# Altium footprint library FootPrintLib_6.PcbLib: 588 footprints (part 15 of 37)
Each footprint in its own frame and in the unit in brackets; x right, y up, seen from the top. Pads: shape width x height; smd on the part's side, far side on the other; paste and mask are expansions set on the pad; w line width, h text height; cw(c..) or ccw(c..) is an arc to the next point about the centre after c.
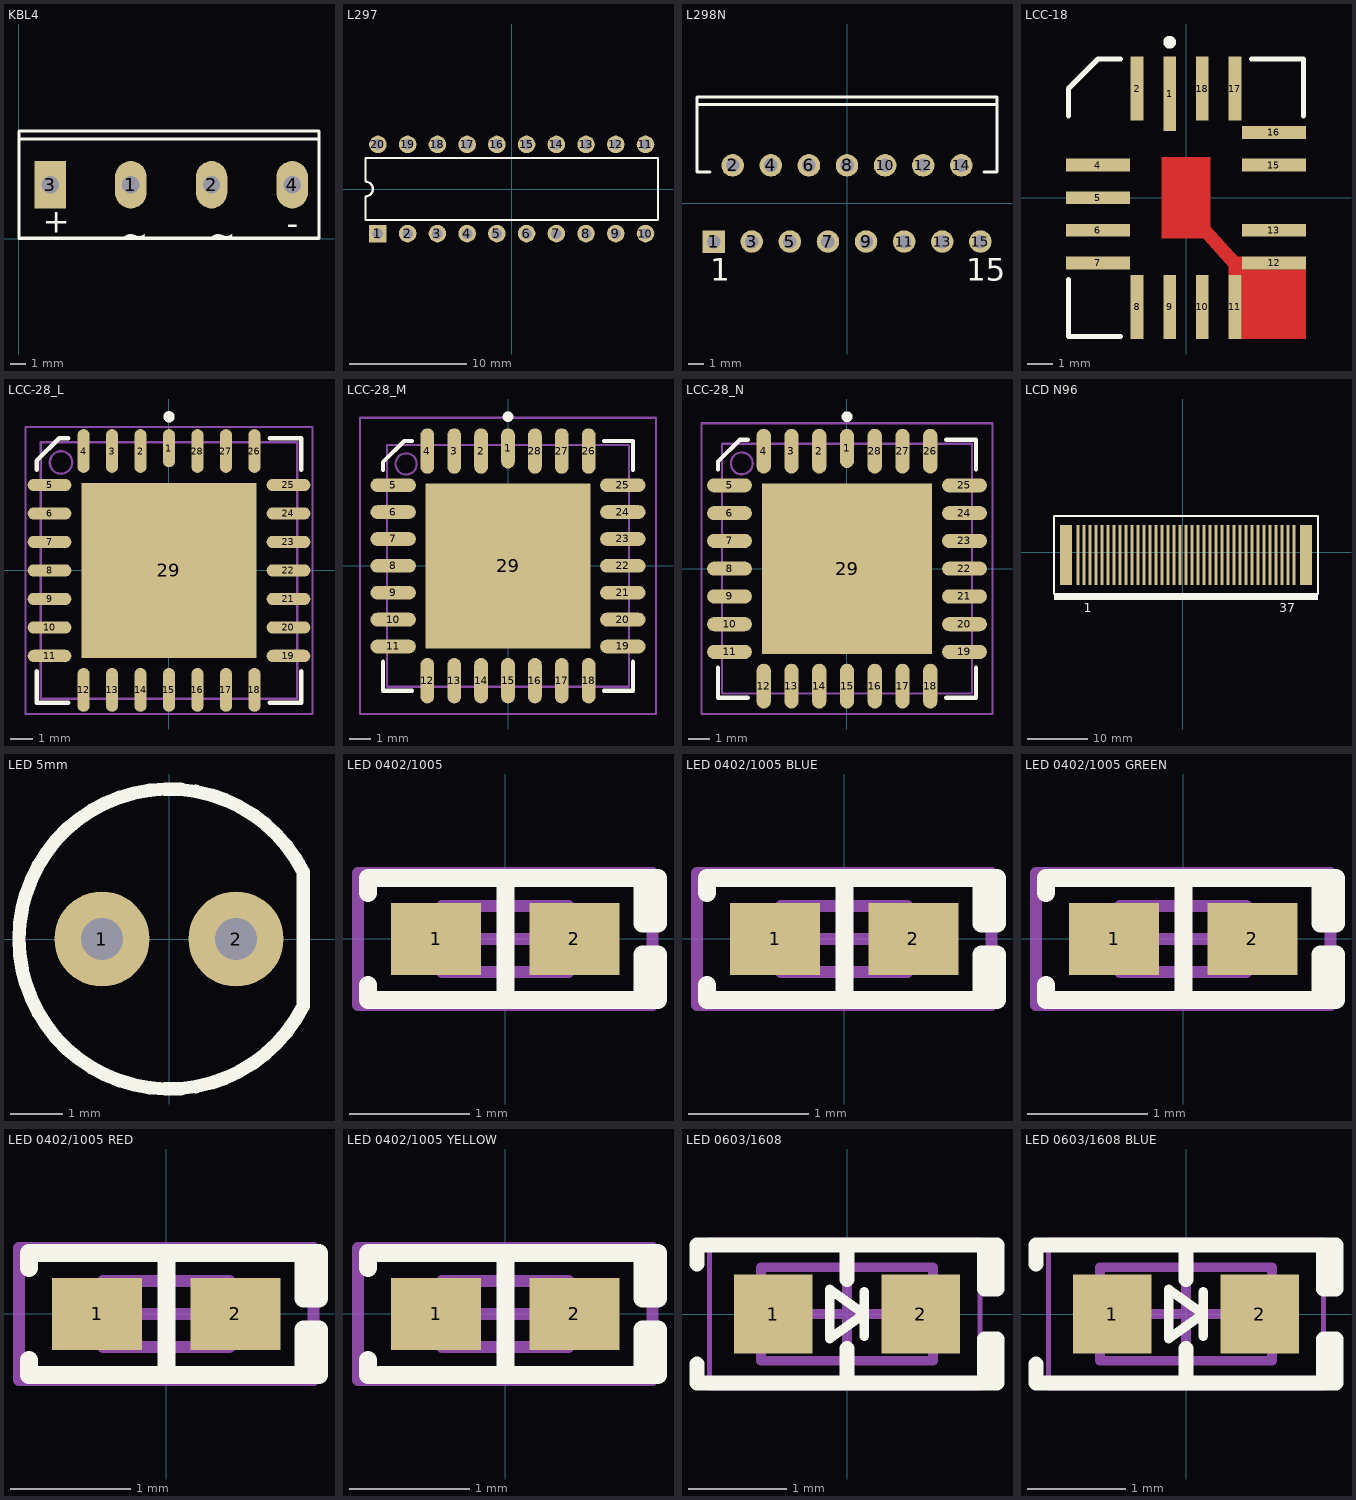
[diagram p14: the footprints below, top view; thin cyan lines are the x and y axes]

## KBL4 [mm] "6mm; 19mm"
height 15
pads (4):
  oval 2x3 hole 1.1: 1(7.112,3.429) 2(12.229,3.429) 4(17.347,3.429)
  rect 2x3 hole 1.1: 3(1.995,3.429)
Top Overlay:
  lines w0.2: 0.013,6.329 19.05,6.329 ; 19,0.029 0.013,0.029 0.013,6.829 19.05,6.829 19.05,0.029
  text "-" at 17.018,0.254 h1.5
  text "+" at 1.524,0.381 h1.5
  text "~" at 12.065,-0.508 h1.5
  text "~" at 6.493,-0.511 h1.5

## L297 [mm]
pads (20):
  rect 1.5x1.5 hole 0.9: 1(-11.43,-3.81)
  round 1.5 hole 0.9: 2(-8.89,-3.81) 3(-6.35,-3.81) 4(-3.81,-3.81) 5(-1.27,-3.81) 6(1.27,-3.81) 7(3.81,-3.81) 8(6.35,-3.81) 9(8.89,-3.81) 10(11.43,-3.81) 11(11.43,3.81) 12(8.89,3.81) 13(6.35,3.81) 14(3.81,3.81) 15(1.27,3.81) 16(-1.27,3.81) 17(-3.81,3.81) 18(-6.35,3.81) 19(-8.89,3.81) 20(-11.43,3.81)
Top Overlay:
  lines w0.2: -12.5,-2.65 -12.5,-0.635 ccw(c-12.5,0) -12.5,0.635 -12.5,2.65 12.5,2.65 12.5,-2.65 -12.5,-2.65

## L298N [mm]
pads (15):
  rect 1.5x1.5 hole 0.9: 1(-8.89,-2.54)
  round 1.5 hole 0.9: 2(-7.62,2.54) 3(-6.35,-2.54) 4(-5.08,2.54) 5(-3.81,-2.54) 6(-2.54,2.54) 7(-1.27,-2.54) 8(0,2.54) 9(1.27,-2.54) 10(2.54,2.54) 11(3.81,-2.54) 12(5.08,2.54) 13(6.35,-2.54) 14(7.62,2.54) 15(8.89,-2.54)
Top Overlay:
  lines w0.2: -10,6.59 10,6.59 ; -9.144,2.09 -10,2.09 -10,7.09 10,7.09 10,2.09 9.144,2.09
  text "1" at -9.12,-5.165 h1.5
  text "15" at 7.94,-5.165 h1.5

## LCC-18 [mm] "Leadless Chip Carrier; 18 Terminals; Body 7.3 x 9 mm"
height 2.93
pads (16):
  rect 0.5x2.9 smd: 1(-0.635,4.05)
  rect 0.5x2.5 smd: 2(-1.905,4.25) 8(-1.905,-4.25) 9(-0.635,-4.25) 10(0.635,-4.25) 11(1.905,-4.25) 17(1.905,4.25) 18(0.635,4.25)
  rect 2.5x0.5 smd: 4(-3.429,1.27) 5(-3.429,0) 6(-3.429,-1.27) 7(-3.429,-2.54) 12(3.429,-2.54) 13(3.421,-1.27) 15(3.421,1.27) 16(3.421,2.54)
Top Layer:
  region: 0.93,-1.092 0.532,-1.45 1.683,-2.728 2.081,-2.37
  rectangle: 1.655,-3 2.178,-2.29
  region: 0.954,-1.597 0.954,1.578 -0.951,1.578 -0.951,-1.597
  rectangle: 2.155,-5.5 4.679,-2.79
Top Overlay:
  circle w0.25: c-0.634,6.052 r0.125
  lines w0.2: -4.575,-3.19 -4.575,-5.402 -2.555,-5.402 ; -4.575,3.19 -4.575,4.25 -3.429,5.398 -2.555,5.398 ; 2.555,5.398 4.575,5.398 4.574,3.19

## LCC-28_L [mm] "Leadless Chip Carrier, 28-Leads, Body 11.4x11.4mm, Pitch 1.27mm, Exposed Pad, IPC High Density"
height 2.42
pads (29):
  oval 0.55x1.7 smd: 1(0,5.45)
  oval 0.55x1.95 smd: 2(-1.27,5.325) 3(-2.54,5.325) 4(-3.81,5.325) 12(-3.81,-5.325) 13(-2.54,-5.325) 14(-1.27,-5.325) 15(0,-5.325) 16(1.27,-5.325) 17(2.54,-5.325) 18(3.81,-5.325) 26(3.81,5.325) 27(2.54,5.325) 28(1.27,5.325)
  oval 1.95x0.55 smd: 5(-5.325,3.81) 6(-5.325,2.54) 7(-5.325,1.27) 8(-5.325,0) 9(-5.325,-1.27) 10(-5.325,-2.54) 11(-5.325,-3.81) 19(5.325,-3.81) 20(5.325,-2.54) 21(5.325,-1.27) 22(5.325,0) 23(5.325,1.27) 24(5.325,2.54) 25(5.325,3.81)
  rect 7.8x7.8 smd: 29(0,0)
Top Overlay:
  circle w0.25: c0,6.85 r0.125
  lines w0.2: -5.9,-4.485 -5.9,-5.9 -4.485,-5.9 ; -5.9,4.485 -5.9,4.9 -4.9,5.9 -4.485,5.9 ; 4.485,-5.9 5.9,-5.9 5.9,-4.485 ; 4.485,5.9 5.9,5.9 5.9,4.485
Mechanical 13:
  circle w0.1: c-4.815,4.815 r0.5
  lines w0.1: -5.715,-5.715 5.715,-5.715 5.715,5.715 -5.715,5.715 -5.715,-5.715
Mechanical 15:
  lines w0.1: -0.5,0 0.5,0 ; 0,-0.5 0,0.5 ; -6.4,-6.4 6.4,-6.4 6.4,6.4 -6.4,6.4 -6.4,-6.4
3D body: height 2.42, standoff 0, extent -5.715,-5.715 5.715,5.715

## LCC-28_M [mm] "Leadless Chip Carrier, 28-Leads, Body 11.4x11.4mm, Pitch 1.27mm, Exposed Pad, IPC Low Density"
height 2.42
pads (29):
  oval 0.65x1.9 smd: 1(0,5.55)
  oval 0.65x2.15 smd: 2(-1.27,5.425) 3(-2.54,5.425) 4(-3.81,5.425) 12(-3.81,-5.425) 13(-2.54,-5.425) 14(-1.27,-5.425) 15(0,-5.425) 16(1.27,-5.425) 17(2.54,-5.425) 18(3.81,-5.425) 26(3.81,5.425) 27(2.54,5.425) 28(1.27,5.425)
  oval 2.15x0.65 smd: 5(-5.425,3.81) 6(-5.425,2.54) 7(-5.425,1.27) 8(-5.425,0) 9(-5.425,-1.27) 10(-5.425,-2.54) 11(-5.425,-3.81) 19(5.425,-3.81) 20(5.425,-2.54) 21(5.425,-1.27) 22(5.425,0) 23(5.425,1.27) 24(5.425,2.54) 25(5.425,3.81)
  rect 7.8x7.8 smd: 29(0,0)
Top Overlay:
  circle w0.25: c0,7.05 r0.125
  lines w0.2: -5.9,-4.535 -5.9,-5.9 -4.535,-5.9 ; -5.9,4.535 -5.9,4.9 -4.9,5.9 -4.535,5.9 ; 4.535,-5.9 5.9,-5.9 5.9,-4.535 ; 4.535,5.9 5.9,5.9 5.9,4.535
Mechanical 13:
  circle w0.1: c-4.815,4.815 r0.5
  lines w0.1: -5.715,-5.715 -5.715,5.715 5.715,5.715 5.715,-5.715 -5.715,-5.715
Mechanical 15:
  lines w0.1: -0.5,0 0.5,0 ; 0,-0.5 0,0.5 ; -7,-7 -7,7 7,7 7,-7 -7,-7
3D body: height 2.42, standoff 0, extent -5.715,-5.715 5.715,5.715

## LCC-28_N [mm] "Leadless Chip Carrier, 28-Leads, Body 11.4x11.4mm, Pitch 1.27mm, Exposed Pad, IPC Medium Density"
height 2.42
pads (29):
  oval 0.65x1.8 smd: 1(0,5.5)
  oval 0.65x2.05 smd: 2(-1.27,5.375) 3(-2.54,5.375) 4(-3.81,5.375) 12(-3.81,-5.375) 13(-2.54,-5.375) 14(-1.27,-5.375) 15(0,-5.375) 16(1.27,-5.375) 17(2.54,-5.375) 18(3.81,-5.375) 26(3.81,5.375) 27(2.54,5.375) 28(1.27,5.375)
  oval 2.05x0.65 smd: 5(-5.375,3.81) 6(-5.375,2.54) 7(-5.375,1.27) 8(-5.375,0) 9(-5.375,-1.27) 10(-5.375,-2.54) 11(-5.375,-3.81) 19(5.375,-3.81) 20(5.375,-2.54) 21(5.375,-1.27) 22(5.375,0) 23(5.375,1.27) 24(5.375,2.54) 25(5.375,3.81)
  rect 7.8x7.8 smd: 29(0,0)
Top Overlay:
  circle w0.25: c0,6.95 r0.125
  lines w0.2: -5.9,-4.535 -5.9,-5.9 -4.535,-5.9 ; -5.9,4.535 -5.9,4.9 -4.9,5.9 -4.535,5.9 ; 4.535,-5.9 5.9,-5.9 5.9,-4.535 ; 4.535,5.9 5.9,5.9 5.9,4.535
Mechanical 13:
  circle w0.1: c-4.815,4.815 r0.5
  lines w0.1: -5.715,-5.715 -5.715,5.715 5.715,5.715 5.715,-5.715 -5.715,-5.715
Mechanical 15:
  lines w0.1: -0.5,0 0.5,0 ; 0,-0.5 0,0.5 ; -6.65,-6.65 -6.65,6.65 6.65,6.65 6.65,-6.65 -6.65,-6.65
3D body: height 2.42, standoff 0, extent -5.715,-5.715 5.715,5.715

## LCD N96 [mm]
pads (39):
  rect 0.5x10 smd: 1(-17.5,-0.5) 2(-16.5,-0.5) 3(-15.5,-0.5) 4(-14.5,-0.5) 5(-13.5,-0.5) 6(-12.5,-0.5) 7(-11.5,-0.5) 8(-10.5,-0.5) 9(-9.5,-0.5) 10(-8.5,-0.5) 11(-7.5,-0.5) 12(-6.5,-0.5) 13(-5.5,-0.5) 14(-4.5,-0.5) 15(-3.5,-0.5) 16(-2.5,-0.5) 17(-1.5,-0.5) 18(-0.5,-0.5) 19(0.5,-0.5) 20(1.5,-0.5) 21(2.5,-0.5) 22(3.5,-0.5) 23(4.5,-0.5) 24(5.5,-0.5) 25(6.5,-0.5) 26(7.5,-0.5) 27(8.5,-0.5) 28(9.5,-0.5) 29(10.5,-0.5) 30(11.5,-0.5) 31(12.5,-0.5) 32(13.5,-0.5) 33(14.5,-0.5) 34(15.5,-0.5) 35(16.5,-0.5) 36(17.5,-0.5) 37(18.5,-0.5)
  rect 2x10 smd: ""(-19.5,-0.5) ""(20.5,-0.5)
Top Overlay:
  rectangle: -21.5,-8 22.5,-7
  lines w0.254: -21.5,-7 -21.5,6 22.5,6 22.5,-7 -21.5,-7
  text "1" at -16.5,-10 h1.52
  text "37" at 16,-10 h1.52

## LED 5mm [mm]
pads (2):
  round 1.8 hole 0.8: 1(-1.27,0) 2(1.27,0)
Top Overlay:
  lines w0.254: 2.54,-1.27 cw(c0,0) 2.54,1.27 2.54,-1.27
3D body "SW3dPS-LEDd5G.STEP": height 9.31, standoff -5.49, extent -3.08,-3.01 2.34,3.01

## LED 0402/1005 [mm] "Chip Diode, 2-Leads, Body 1.00x0.50mm, IPC Medium Density"
height 0.25
pads (2):
  rect 0.75x0.6 smd: 1(-0.575,0) 2(0.575,0)
Top Overlay:
  lines w0.15: -1.143,-0.381 -1.143,-0.508 1.143,-0.508 ; -1.143,0.381 -1.143,0.508 1.143,0.508 ; 0,-0.508 0,0.508 ; 1.143,-0.508 1.143,-0.127 1.27,-0.127 1.27,-0.508 1.143,-0.508 ; 1.143,0.508 1.143,0.127 1.27,0.127 1.27,0.508 1.143,0.508
Mechanical 13:
  lines w0.1: -0.525,-0.275 0.525,-0.275 0.525,0.275 -0.525,0.275 -0.525,-0.275
Mechanical 15:
  lines w0.1: -0.275,0 0.275,0 ; 0,-0.275 0,0.275 ; -1.225,-0.55 1.225,-0.55 1.225,0.55 -1.225,0.55 -1.225,-0.55
3D body "LED 0402 Base WHITE.STEP": height 0.1, standoff 0, extent -0.5,-0.25 0.5,0.25
3D body "LED 0402 Lens WHITE.STEP": height 0.21, standoff 0.08, extent -0.35,-0.25 0.35,0.25

## LED 0402/1005 BLUE [mm] "Chip Diode, 2-Leads, Body 1.00x0.50mm, IPC Medium Density"
height 0.25
pads (2):
  rect 0.75x0.6 smd: 1(-0.575,0) 2(0.575,0)
Top Overlay:
  lines w0.15: -1.143,-0.381 -1.143,-0.508 1.143,-0.508 ; -1.143,0.381 -1.143,0.508 1.143,0.508 ; 0,-0.508 0,0.508 ; 1.143,-0.508 1.27,-0.508 1.27,-0.127 1.143,-0.127 1.143,-0.508 ; 1.143,0.508 1.27,0.508 1.27,0.127 1.143,0.127 1.143,0.508
Mechanical 13:
  lines w0.1: -0.525,-0.275 -0.525,0.275 0.525,0.275 0.525,-0.275 -0.525,-0.275
Mechanical 15:
  lines w0.1: -0.275,0 0.275,0 ; 0,-0.275 0,0.275 ; -1.225,-0.55 -1.225,0.55 1.225,0.55 1.225,-0.55 -1.225,-0.55
3D body "LED 0402 Lens BLUE.STEP": height 0.21, standoff 0.08, extent -0.35,-0.25 0.35,0.25
3D body "LED 0402 Base BLUE.STEP": height 0.1, standoff 0, extent -0.5,-0.25 0.5,0.25

## LED 0402/1005 GREEN [mm] "Chip Diode, 2-Leads, Body 1.00x0.50mm, IPC Medium Density"
height 0.25
pads (2):
  rect 0.75x0.6 smd: 1(-0.575,0) 2(0.575,0)
Top Overlay:
  lines w0.15: -1.143,-0.381 -1.143,-0.508 1.143,-0.508 ; -1.143,0.381 -1.143,0.508 1.143,0.508 ; 0,-0.508 0,0.508 ; 1.143,-0.508 1.27,-0.508 1.27,-0.127 1.143,-0.127 1.143,-0.508 ; 1.143,0.508 1.27,0.508 1.27,0.127 1.143,0.127 1.143,0.508
Mechanical 13:
  lines w0.1: -0.525,-0.275 -0.525,0.275 0.525,0.275 0.525,-0.275 -0.525,-0.275
Mechanical 15:
  lines w0.1: -0.275,0 0.275,0 ; 0,-0.275 0,0.275 ; -1.225,-0.55 -1.225,0.55 1.225,0.55 1.225,-0.55 -1.225,-0.55
3D body "LED 0402 Lens GREEN.STEP": height 0.21, standoff 0.08, extent -0.35,-0.25 0.35,0.25
3D body "LED 0402 Base GREEN.STEP": height 0.1, standoff 0, extent -0.5,-0.25 0.5,0.25

## LED 0402/1005 RED [mm] "Chip Diode, 2-Leads, Body 1.00x0.50mm, IPC Medium Density"
height 0.25
pads (2):
  rect 0.75x0.6 smd: 1(-0.575,0) 2(0.575,0)
Top Overlay:
  lines w0.15: -1.143,-0.381 -1.143,-0.508 1.143,-0.508 ; -1.143,0.381 -1.143,0.508 1.143,0.508 ; 0,-0.508 0,0.508 ; 1.143,-0.508 1.27,-0.508 1.27,-0.127 1.143,-0.127 1.143,-0.508 ; 1.143,0.508 1.27,0.508 1.27,0.127 1.143,0.127 1.143,0.508
Mechanical 13:
  lines w0.1: -0.525,-0.275 -0.525,0.275 0.525,0.275 0.525,-0.275 -0.525,-0.275
Mechanical 15:
  lines w0.1: -0.275,0 0.275,0 ; 0,-0.275 0,0.275 ; -1.225,-0.55 -1.225,0.55 1.225,0.55 1.225,-0.55 -1.225,-0.55
3D body "LED 0402 Lens RED.STEP": height 0.21, standoff 0.08, extent -0.35,-0.25 0.35,0.25
3D body "LED 0402 Base RED.STEP": height 0.1, standoff 0, extent -0.5,-0.25 0.5,0.25

## LED 0402/1005 YELLOW [mm] "Chip Diode, 2-Leads, Body 1.00x0.50mm, IPC Medium Density"
height 0.25
pads (2):
  rect 0.75x0.6 smd: 1(-0.575,0) 2(0.575,0)
Top Overlay:
  lines w0.15: -1.143,-0.381 -1.143,-0.508 1.143,-0.508 ; -1.143,0.381 -1.143,0.508 1.143,0.508 ; 0,-0.508 0,0.508 ; 1.143,-0.508 1.143,-0.127 1.27,-0.127 1.27,-0.508 1.143,-0.508 ; 1.143,0.508 1.143,0.127 1.27,0.127 1.27,0.508 1.143,0.508
Mechanical 13:
  lines w0.1: -0.525,-0.275 0.525,-0.275 0.525,0.275 -0.525,0.275 -0.525,-0.275
Mechanical 15:
  lines w0.1: -0.275,0 0.275,0 ; 0,-0.275 0,0.275 ; -1.225,-0.55 1.225,-0.55 1.225,0.55 -1.225,0.55 -1.225,-0.55
3D body "LED 0402 Base YELLOW.STEP": height 0.1, standoff 0, extent -0.5,-0.25 0.5,0.25
3D body "LED 0402 Lens YELLOW.STEP": height 0.21, standoff 0.08, extent -0.35,-0.25 0.35,0.25

## LED 0603/1608 [mm] "Chip Diode, 2-Leads, Body 1.60x0.80mm, IPC Medium Density"
height 0.45
pads (2):
  rect 0.8x0.8 smd: 1(-0.75,0) 2(0.75,0)
Top Overlay:
  lines w0.1: 0.175,-0.225 0.175,0 ; 0.175,0.225 0.175,0 ; 0.175,0 -0.175,-0.25 -0.175,0 -0.175,0.25 0.175,0
  lines w0.15: -1.524,-0.508 -1.524,-0.7 1.5,-0.7 ; -1.524,0.508 -1.524,0.7 1.5,0.7 ; 0,-0.7 0,-0.35 ; 0,0.35 0,0.7 ; 1.397,-0.7 1.397,-0.254 1.524,-0.254 1.524,-0.7 1.397,-0.7 ; 1.397,0.254 1.397,0.7 1.524,0.7 1.524,0.254 1.397,0.254
Mechanical 13:
  lines w0.1: -0.875,-0.475 0.875,-0.475 0.875,0.475 -0.875,0.475 -0.875,-0.475
Mechanical 15:
  lines w0.05: -1.397,-0.75 1.35,-0.75 1.35,0.75 -1.397,0.75 -1.397,-0.75
  lines w0.1: -0.475,0 0.475,0 ; 0,-0.475 0,0.475
3D body "LED 0603 Base WHITE.STEP": height 0.28, standoff 0, extent -0.8,-0.4 0.8,0.4
3D body "LED 0603 Lens WHITE.STEP": height 0.53, standoff 0.18, extent -0.55,-0.4 0.55,0.4

## LED 0603/1608 BLUE [mm] "Chip Diode, 2-Leads, Body 1.60x0.80mm, IPC Medium Density"
height 0.45
pads (2):
  rect 0.8x0.8 smd: 1(-0.75,0) 2(0.75,0)
Top Overlay:
  lines w0.1: 0.175,-0.225 0.175,0 ; 0.175,0.225 0.175,0 ; 0.175,0 -0.175,-0.25 -0.175,0 -0.175,0.25 0.175,0
  lines w0.15: -1.524,-0.508 -1.524,-0.7 1.5,-0.7 ; -1.524,0.508 -1.524,0.7 1.5,0.7 ; 0,-0.7 0,-0.35 ; 0,0.35 0,0.7 ; 1.397,-0.7 1.397,-0.254 1.524,-0.254 1.524,-0.7 1.397,-0.7 ; 1.397,0.254 1.397,0.7 1.524,0.7 1.524,0.254 1.397,0.254
Mechanical 13:
  lines w0.1: -0.875,-0.475 0.875,-0.475 0.875,0.475 -0.875,0.475 -0.875,-0.475
Mechanical 15:
  lines w0.05: -1.397,-0.75 1.397,-0.75 1.397,0.75 -1.397,0.75 -1.397,-0.75
  lines w0.1: -0.475,0 0.475,0 ; 0,-0.475 0,0.475
3D body "LED 0603 Base BLUE.STEP": height 0.28, standoff 0, extent -0.8,-0.4 0.8,0.4
3D body "LED 0603 Lens BLUE.STEP": height 0.53, standoff 0.18, extent -0.55,-0.4 0.55,0.4